# Altium schematic symbol library Schlib.SchLib: 13 symbols
Pins are listed as number, name and electrical type; pins without a type are passive.

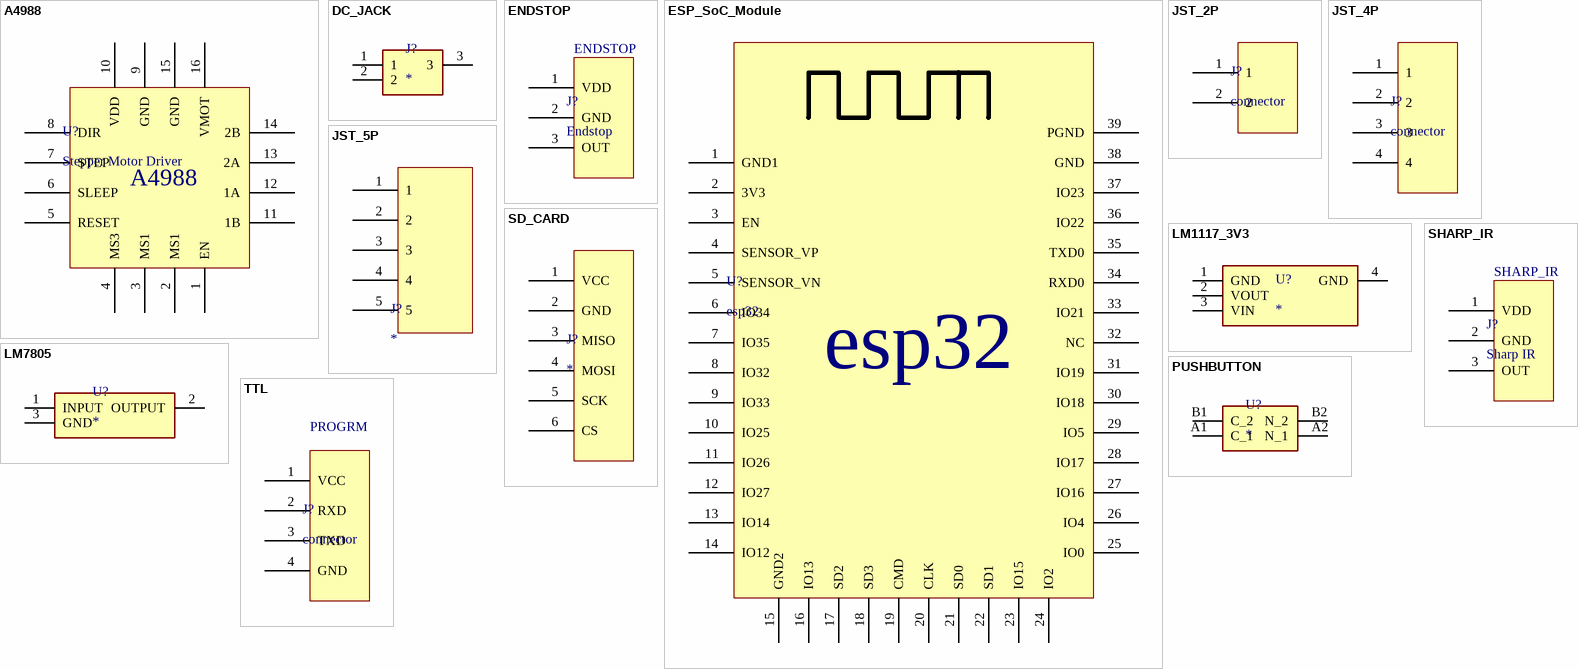
[diagram p0: symbols A4988 to TTL]

## A4988
designator U?, comment Stepper Motor Driver
footprint A4988
pins: 1 EN, 2 MS1, 3 MS1, 4 MS3, 5 RESET, 6 SLEEP, 7 STEP, 8 DIR, 9 GND, 10 VDD, 11 1B, 12 1A, 13 2A, 14 2B, 15 GND, 16 VMOT

## DC_JACK
designator J?
footprint DC_JACK
pins: 1, 2, 3

## ENDSTOP
designator J?, comment Endstop
footprint ENDSTOP
pins: 1 VDD, 2 GND, 3 OUT

## ESP_SoC_Module
designator U?, comment esp32
footprint ESP_SoC_Module
pins: 1 GND1, 2 3V3, 3 EN, 4 SENSOR_VP, 5 SENSOR_VN, 6 IO34, 7 IO35, 8 IO32, 9 IO33, 10 IO25, 11 IO26, 12 IO27, 13 IO14, 14 IO12, 15 GND2, 16 IO13, 17 SD2, 18 SD3, 19 CMD, 20 CLK, 21 SD0, 22 SD1, 23 IO15, 24 IO2, 25 IO0, 26 IO4, 27 IO16, 28 IO17, 29 IO5, 30 IO18, 31 IO19, 32 NC, 33 IO21, 34 RXD0, 35 TXD0, 36 IO22, 37 IO23, 38 GND, 39 PGND

## JST_2P
designator J?, comment connector
footprint JST_2P
pins: 1, 2

## JST_4P
designator J?, comment connector
footprint JST_4P
pins: 1, 2, 3, 4

## JST_5P
designator J?
footprint JST_5P
pins: 1 (power), 2 (power), 3, 4, 5

## LM1117_3V3
designator U?
footprint LM1117_3V3
pins: 1 GND, 2 VOUT, 3 VIN, 4 GND

## LM7805
designator U?
footprint LM7805
pins: 1 INPUT, 2 OUTPUT, 3 GND

## PUSHBUTTON
designator U?
footprint PUSHBUTTON
pins: A1 C_1, A2 N_1, B1 C_2, B2 N_2

## SD_CARD
designator J?
footprint SD_CARD
pins: 1 VCC, 2 GND, 3 MISO, 4 MOSI, 5 SCK, 6 CS

## SHARP_IR
designator J?, comment Sharp IR
footprint SHARP_IR
pins: 1 VDD, 2 GND, 3 OUT

## TTL
designator J?, comment connector
footprint TTL
pins: 1 VCC, 2 RXD, 3 TXD, 4 GND
text: PROGRM